# Altium footprint library BB.GW.001.00.00.PcbLib: 94 footprints (part 2 of 6)
Each footprint in its own frame and in the unit in brackets; x right, y up, seen from the top. Pads: shape width x height; smd on the part's side, far side on the other; paste and mask are expansions set on the pad; w line width, h text height; cw(c..) or ccw(c..) is an arc to the next point about the centre after c.
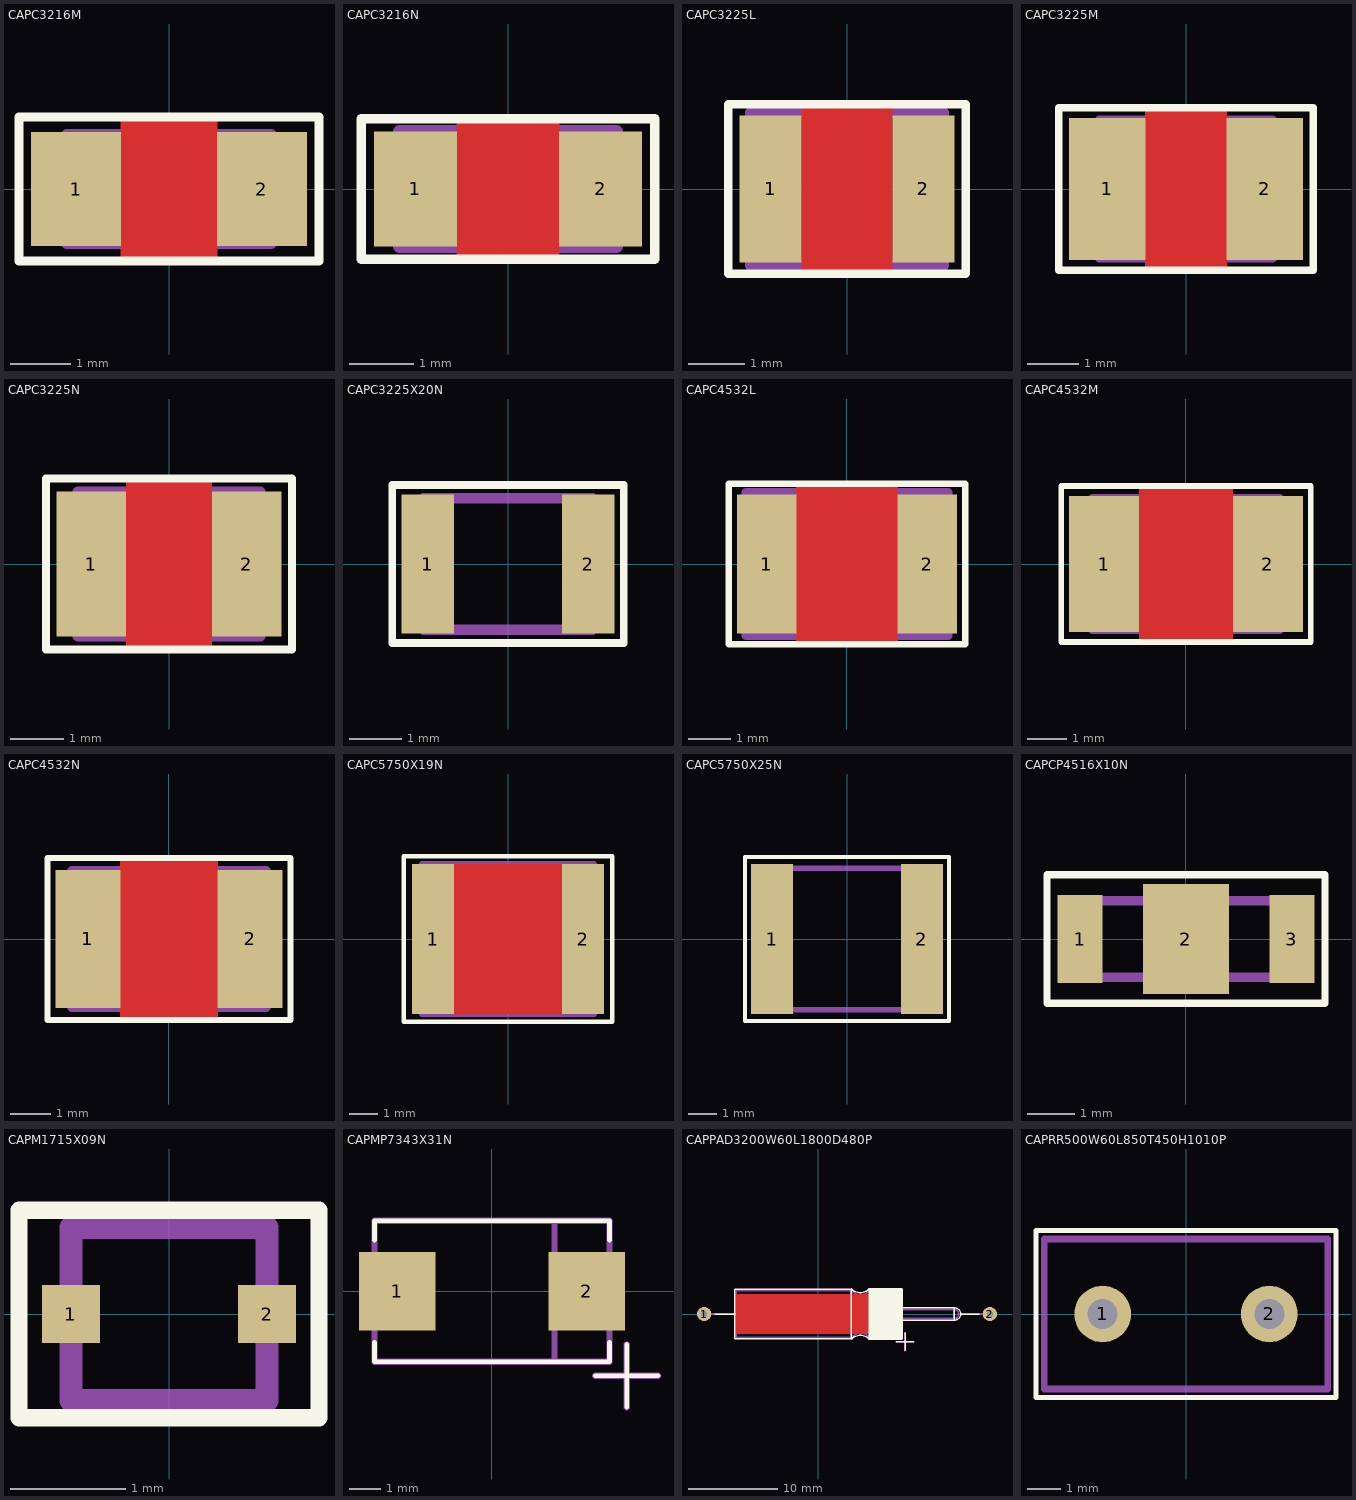
[diagram p1: the footprints below, top view; thin cyan lines are the x and y axes]

## CAPC3216M [mm] "Chip Capacitor, Body 3.2x1.6mm, IPC Low Density"
height 1.35
pads (2):
  rect 1.5x1.9 smd: 1(-1.55,0) 2(1.55,0)
Top Layer:
  pour cut-out: -0.8,1.2 -0.8,-1.2 0.8,-1.2 0.8,1.2
Top Overlay:
  lines w0.15: -2.5,-1.2 -2.5,1.2 2.5,1.2 2.5,-1.2 -2.5,-1.2
TopAsy:
  lines w0.2: -1.7,-0.9 1.7,-0.9 1.7,0.9 -1.7,0.9 -1.7,-0.9
3D body: height 1.35, standoff 0, extent -1.7,-0.9 1.7,0.9

## CAPC3216N [mm] "Chip Capacitor, Body 3.2x1.6mm, IPC Medium Density"
height 1.35
pads (2):
  rect 1.3x1.8 smd: 1(-1.45,0) 2(1.45,0)
Top Layer:
  pour cut-out: -0.8,1.1 -0.8,-1.1 0.8,-1.1 0.8,1.1
Top Overlay:
  lines w0.15: -2.3,-1.1 2.3,-1.1 2.3,1.1 -2.3,1.1 -2.3,-1.1
TopAsy:
  lines w0.2: -1.7,-0.9 1.7,-0.9 1.7,0.9 -1.7,0.9 -1.7,-0.9
3D body: height 1.35, standoff 0, extent -1.7,-0.9 1.7,0.9

## CAPC3225L [mm] "Chip Capacitor, Body 3.2x2.5mm, IPC High Density"
height 1.35
pads (2):
  rect 1.1x2.6 smd: 1(-1.35,0) 2(1.35,0)
Top Layer:
  pour cut-out: -0.8,1.5 -0.8,-1.5 0.8,-1.5 0.8,1.5
Top Overlay:
  lines w0.15: -2.1,-1.5 2.1,-1.5 2.1,1.5 -2.1,1.5 -2.1,-1.5
TopAsy:
  lines w0.2: -1.7,-1.35 -1.7,1.35 1.7,1.35 1.7,-1.35 -1.7,-1.35
3D body: height 1.35, standoff 0, extent -1.7,-1.35 1.7,1.35

## CAPC3225M [mm] "Chip Capacitor, Body 3.2x2.5mm, IPC Low Density"
height 1.35
pads (2):
  rect 1.5x2.8 smd: 1(-1.55,0) 2(1.55,0)
Top Layer:
  pour cut-out: -0.8,1.6 -0.8,-1.6 0.8,-1.6 0.8,1.6
Top Overlay:
  lines w0.15: -2.5,-1.6 2.5,-1.6 2.5,1.6 -2.5,1.6 -2.5,-1.6
TopAsy:
  lines w0.2: -1.7,-1.35 1.7,-1.35 1.7,1.35 -1.7,1.35 -1.7,-1.35
3D body: height 1.35, standoff 0, extent -1.7,-1.35 1.7,1.35

## CAPC3225N [mm] "Chip Capacitor, Body 3.2x2.5mm, IPC Medium Density"
height 1.35
pads (2):
  rect 1.3x2.7 smd: 1(-1.45,0) 2(1.45,0)
Top Layer:
  pour cut-out: -0.8,1.6 -0.8,-1.6 0.8,-1.6 0.8,1.6
Top Overlay:
  lines w0.15: -2.3,-1.6 -2.3,1.6 2.3,1.6 2.3,-1.6 -2.3,-1.6
TopAsy:
  lines w0.2: -1.7,-1.35 -1.7,1.35 1.7,1.35 1.7,-1.35 -1.7,-1.35
3D body: height 1.35, standoff 0, extent -1.7,-1.35 1.7,1.35

## CAPC3225X20N [mm] "Chip Capacitor, 2-Leads, Body 3,20x2,50mm, IPC Medium Density"
height 2
pads (2):
  rect 1x2.65 smd: 1(-1.525,0) 2(1.525,0)
Top Overlay:
  lines w0.15: -2.2,-1.5 -2.2,1.5 2.2,1.5 2.2,-1.5 -2.2,-1.5
TopAsy:
  lines w0.2: -1.6,-1.25 -1.6,1.25 1.6,1.25 1.6,-1.25 -1.6,-1.25
3D body "CAPC3225X20N.step": height 2, standoff 0, extent -1.6,-1.25 1.6,1.25

## CAPC4532L [mm] "Chip Capacitor, Body 4.5x3.2mm, IPC High Density"
height 1.35
pads (2):
  rect 1.4x3.3 smd: 1(-1.9,0) 2(1.9,0)
Top Layer:
  pour cut-out: -1.2,1.9 -1.2,-1.9 1.2,-1.9 1.2,1.9
Top Overlay:
  lines w0.15: -2.8,-1.9 2.8,-1.9 2.8,1.9 -2.8,1.9 -2.8,-1.9
TopAsy:
  lines w0.2: -2.4,-1.7 -2.4,1.7 2.4,1.7 2.4,-1.7 -2.4,-1.7
3D body: height 1.35, standoff 0, extent -2.4,-1.7 2.4,1.7

## CAPC4532M [mm] "Chip Capacitor, Body 4.5x3.2mm, IPC Low Density"
height 1.35
pads (2):
  rect 1.8x3.5 smd: 1(-2.1,0) 2(2.1,0)
Top Layer:
  pour cut-out: -1.2,2 -1.2,-2 1.2,-2 1.2,2
Top Overlay:
  lines w0.15: -3.2,-2 -3.2,2 3.2,2 3.2,-2 -3.2,-2
TopAsy:
  lines w0.2: -2.4,-1.7 2.4,-1.7 2.4,1.7 -2.4,1.7 -2.4,-1.7
3D body: height 1.35, standoff 0, extent -2.4,-1.7 2.4,1.7

## CAPC4532N [mm] "Chip Capacitor, Body 4.5x3.2mm, IPC Medium Density"
height 1.35
pads (2):
  rect 1.6x3.4 smd: 1(-2,0) 2(2,0)
Top Layer:
  pour cut-out: -1.2,2 -1.2,-2 1.2,-2 1.2,2
Top Overlay:
  lines w0.15: -3,-2 -3,2 3,2 3,-2 -3,-2
TopAsy:
  lines w0.2: -2.4,-1.7 -2.4,1.7 2.4,1.7 2.4,-1.7 -2.4,-1.7
3D body: height 1.35, standoff 0, extent -2.4,-1.7 2.4,1.7

## CAPC5750X19N [mm] "Chip Capacitor, 2-Leads, Body 5,70x5,00mm, IPC Medium Density"
height 1.85
pads (2):
  rect 1.5x5.3 smd: 1(-2.65,0) 2(2.65,0)
Top Layer:
  pour cut-out: -1.9,2.65 -1.9,-2.65 1.9,-2.65 1.9,2.65
Top Overlay:
  lines w0.15: -3.683,-2.921 -3.683,2.921 3.683,2.921 3.683,-2.921 -3.683,-2.921
TopAsy:
  lines w0.2: -3.05,-2.65 3.05,-2.65 3.05,2.65 -3.05,2.65 -3.05,-2.65
3D body: height 1.8, standoff 0, extent -3.048,-2.667 3.048,2.667

## CAPC5750X25N [mm] "Chip Capacitor, 2-Leads, Body 5,70x5,00mm, IPC Medium Density"
height 2.5
pads (2):
  rect 1.5x5.3 smd: 1(-2.65,0) 2(2.65,0)
Top Overlay:
  lines w0.15: -3.6,-2.9 -3.6,2.9 3.6,2.9 3.6,-2.9 -3.6,-2.9
TopAsy:
  lines w0.2: -2.85,-2.5 2.85,-2.5 2.85,2.5 -2.85,2.5 -2.85,-2.5
3D body "CAPC5750X25N.step": height 2.5, standoff 0, extent -2.85,-2.5 2.85,2.5

## CAPCP4516X10N [mm] "Chip Filter, 3-Leads, Body 4,50x1,6mm, IPC Medium Density"
height 1
pads (3):
  rect 0.95x1.85 smd: 1(-2.225,0) 3(2.225,0)
  rect 1.8x2.3 smd: 2(0,0)
Top Overlay:
  lines w0.15: -2.921,-1.35 2.921,-1.35 2.921,1.35 -2.921,1.35 -2.921,-1.35
TopAsy:
  lines w0.2: -2.25,-0.8 -2.25,0.8 2.25,0.8 2.25,-0.8 -2.25,-0.8
Mechanical 20:
  text "Требуется" at -2.9,-0.4 h1.8
  text "прошивка" at -2.9,-1.7 h1.8
3D body "User Library-Murata_NFM41C.STEP": height 1, standoff 0, extent -2.25,-0.8 2.25,0.8

## CAPM1715X09N [mm] "Molded Capacitor, 2-Leads, Body 1,70x1,50mm, IPC Medium Density"
height 0.9
pads (2):
  rect 0.5x0.5 smd: 1(-0.85,0) 2(0.85,0)
Top Overlay:
  lines w0.15: -1.3,-0.9 1.3,-0.9 1.3,0.9 -1.3,0.9 -1.3,-0.9
TopAsy:
  lines w0.2: -0.85,-0.75 0.85,-0.75 0.85,0.75 -0.85,0.75 -0.85,-0.75
3D body "SW3dPS-murata_trimmer_TZR1.STEP": height 1.01, standoff 0, extent -0.901,-0.75 0.813,0.75

## CAPMP7343X31N [mm] "Molded Capacitor, 2-Leads, Body 7,30x4,30mm, IPC Medium Density"
height 3.1
pads (2):
  rect 2.45x2.5 smd: 1(-3.025,0) 2(3.025,0)
Top Overlay:
  lines w0.15: -3.75,-1.625 -3.75,-2.25 3.75,-2.25 3.75,-1.625 ; -3.75,1.625 -3.75,2.25 3.75,2.25 3.75,1.625 ; 3.3,-2.7 5.3,-2.7 ; 4.3,-3.7 4.3,-1.7
TopAsy:
  lines w0.2: 2,-2.25 2,2.25 ; 3.3,-2.7 5.3,-2.7 ; 4.3,-3.7 4.3,-1.7 ; -3.75,-2.25 -3.75,2.25 3.75,2.25 3.75,-2.25 -3.75,-2.25
3D body "CAPMP7343X31N.step": height 3.1, standoff 0, extent -3.97,-2.25 3.97,2.25

## CAPPAD3200W60L1800D480P [mm] "THD, Body: D=4,8mm, L=18mm, d=0,6 mm; Weight 3,5g; Конденсатор полярный танталовый"
height 6.2
pads (2):
  round 1.6 hole 0.8: 1(-12.8,0) 2(19.2,0)
Top Layer:
  pour cut-out: -9.2,2.2 9.2,2.2 9.2,-2.2 -9.2,-2.2
Top Overlay:
  region: 5.7,2.8 9.4,2.8 9.4,-2.8 5.7,-2.8
  lines w0.15: -11.6,0 -9.4,0 ; 8.7,-3.1 10.7,-3.1 ; 9.4,-0.7 15.225,-0.7 ; 9.4,0.7 15.225,0.7 ; 9.7,-4.1 9.7,-2.1 ; 15.925,0 18,0 ; 3.7,-2.8 cw(c4.7,-3.8) 5.7,-2.8 ; 3.7,-2.8 3.7,2.8 ; 3.7,-2.8 -9.4,-2.8 -9.4,2.8 3.7,2.8 ; 3.7,2.8 ccw(c4.7,3.8) 5.7,2.8 ; 5.7,-2.8 5.7,2.8 ; 5.7,-2.8 9.4,-2.8 9.4,2.8 5.7,2.8 ; 15.225,-0.7 ccw(c15.225,0) 15.225,0.7 ; 15.225,-0.7 15.225,0.7
TopAsy:
  lines w0.2: -12.8,0 -9.2,0 ; 8.7,-3.1 10.7,-3.1 ; 9.2,-0.5 15.2,-0.5 ; 9.2,0.5 15.2,0.5 ; 9.7,-4.1 9.7,-2.1 ; 15.7,0 19.2,0 ; 3.7,-2.6 cw(c4.7,-3.6) 5.7,-2.6 ; 3.7,-2.6 3.7,2.6 ; 3.7,-2.6 -9.2,-2.6 -9.2,2.6 3.7,2.6 ; 3.7,2.6 ccw(c4.7,3.6) 5.7,2.6 ; 5.7,-2.6 9.2,-2.6 9.2,2.6 5.7,2.6 ; 5.7,-2.6 5.7,2.6 ; 15.2,-0.5 ccw(c15.2,0) 15.2,0.5 ; 15.2,-0.5 15.2,0.5
3D body "Конденсатор К52-11-16В-100 мкФ -В ОЖО.464.234 ТУ.STEP": height 6.11, standoff -2.49, extent -13.125,-2.6 19.525,2.6

## CAPRR500W60L850T450H1010P [mm] "Capasitor; 2-Leads; body: 8,50Х4,50mm"
height 10.1
pads (2):
  round 1.7 hole 0.9 paste+0: 1(-2.5,0) 2(2.5,0)
Top Overlay:
  lines w0.15: -4.5,-2.5 -4.5,2.5 4.5,2.5 4.5,-2.5 -4.5,-2.5
TopAsy:
  lines w0.2: -4.25,-2.25 -4.25,2.25 4.25,2.25 4.25,-2.25 -4.25,-2.25
3D body "Конденсатор K10-69б-Н30-25В-1,5мкФ.stp": height 12.1, standoff -3, extent -4.25,-2.2 4.25,2.3